# Altium footprint library connector.PcbLib: 180 footprints (part 2 of 12)
Each footprint in its own frame and in the unit in brackets; x right, y up, seen from the top. Pads: shape width x height; smd on the part's side, far side on the other; paste and mask are expansions set on the pad; w line width, h text height; cw(c..) or ccw(c..) is an arc to the next point about the centre after c.
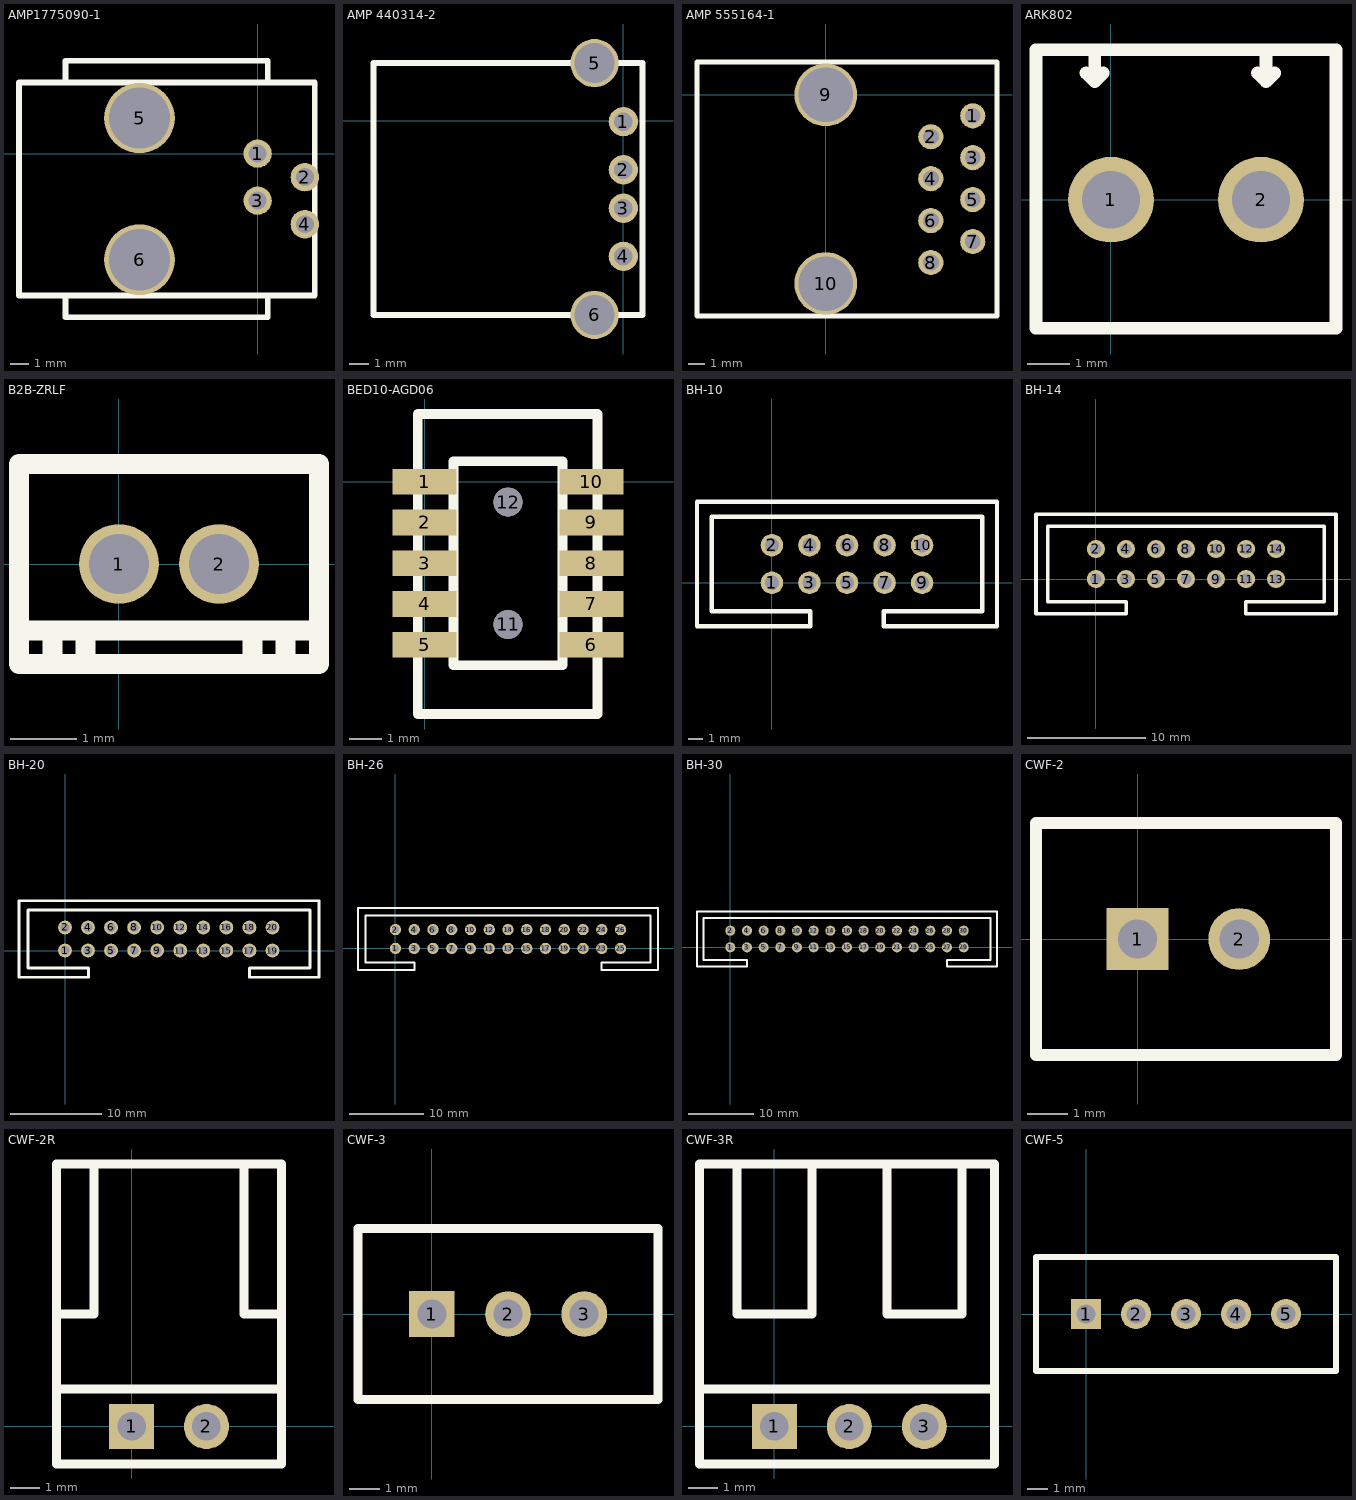
[diagram p1: the footprints below, top view; thin cyan lines are the x and y axes]

## AMP1775090-1 [mm]
pads (6):
  round 1.524 hole 0.965: 1(-0.02,0.02) 2(2.52,-1.25) 3(-0.02,-2.51) 4(2.52,-3.78)
  round 3.8 hole 3.3: 5(-6.37,1.93) 6(-6.37,-5.69)
Top Overlay:
  lines w0.3: -10.35,-7.61 -10.35,-8.78 0.53,-8.78 0.53,-7.61 ; -10.35,3.84 -10.35,5.01 0.53,5.01 0.53,3.84 ; -12.85,-7.61 -12.85,3.84 3.05,3.84 3.05,-7.61 -12.85,-7.61

## AMP 440314-2 [mm]
pads (6):
  round 1.524 hole 0.965: 1(0,-0.05) 2(0,-2.55) 3(0,-4.55) 4(0,-7.05)
  round 2.5 hole 2.1: 5(-1.5,3) 6(-1.5,-10.1)
Top Overlay:
  lines w0.3: -13,-10.1 1,-10.1 1,3 -13,3 -13,-10.1

## AMP 555164-1 [mil]
pads (10):
  round 60 hole 38: 1(350.39,-50) 2(250.39,-100) 3(350.39,-150) 4(250.39,-200) 5(350.39,-250) 6(250.39,-300) 7(350.39,-350) 8(250.39,-400)
  round 149.61 hole 129.92: 9(0,0) 10(0,-450)
Top Overlay:
  lines w11.81: -307.09,-527.17 327.95,-527.17 408.27,-527.17 408.27,77.95 -307.09,77.95 -307.09,-527.17

## ARK802 [mm]
pads (2):
  round 2 hole 1.35: 1(0,0) 2(3.5,0)
Top Overlay:
  lines w0.3: -0.58,2.96 -0.38,2.76 ; -0.38,3.36 -0.38,2.76 ; -0.18,2.96 -0.38,2.76 ; 3.42,2.96 3.62,2.76 ; 3.62,3.36 3.62,2.76 ; 3.82,2.96 3.62,2.76 ; -1.75,-3 5.25,-3 5.25,3.5 -1.75,3.5 -1.75,-3

## B2B-ZRLF [mm]
pads (2):
  round 1.2 hole 0.9: 1(0,0) 2(1.5,0)
Top Overlay:
  lines w0.3: -1.5,-1 3,-1 ; -1,-1.5 -1,-1 ; -0.5,-1.5 -0.5,-1 ; 2,-1.5 2,-1 ; 2.5,-1.5 2.5,-1 ; -1.5,-1.5 3,-1.5 3,1.5 -1.5,1.5 -1.5,-1.5

## BED10-AGD06 [mm]
pads (12):
  rect 2x0.8 smd: 1(0,0) 2(0,-1.27) 3(0,-2.54) 4(0,-3.81) 5(0,-5.08) 6(5.2,-5.08) 7(5.2,-3.81) 8(5.2,-2.54) 9(5.2,-1.27) 10(5.2,0)
  round 0.9 hole 0.9 unplated: 11(2.6,-4.445) 12(2.6,-0.635)
Top Overlay:
  lines w0.3: -0.21,-7.24 -0.21,2.11 5.39,2.11 5.39,-7.24 -0.21,-7.24 ; 0.9,-5.715 0.9,0.635 4.3,0.635 4.3,-5.715 0.9,-5.715
3D body "BED10.STEP": height 7.8, standoff 0, extent -0.175,-7.195 5.325,2.125

## BH-10 [mil]
pads (10):
  round 60 hole 38: 1(0,0) 2(0,100) 3(100,0) 4(100,100) 5(200,0) 6(200,100) 7(300,0) 8(300,100) 9(400,0) 10(400,100)
Top Overlay:
  lines w11.81: -199.61,-115.35 -199.61,215.35 599.61,215.35 599.61,-115.35 333.46,-115.35 298.43,-115.35 298.43,-75.98 524.02,-75.98 560.24,-75.98 560.24,175.98 -160.24,175.98 -160.24,-31.89 -160.24,-75.98 101.57,-75.98 101.57,-115.35 -199.61,-115.35

## BH-14 [mil]
pads (14):
  round 60 hole 38: 1(0,0) 2(0,100) 3(100,0) 4(100,100) 5(200,0) 6(200,100) 7(300,0) 8(300,100) 9(400,0) 10(400,100) 11(500,0) 12(500,100) 13(600,0) 14(600,100)
Top Overlay:
  lines w11.81: -199.61,-115.35 -199.61,215.35 799.61,215.35 799.61,-115.35 533.46,-115.35 498.43,-115.35 498.43,-75.98 724.02,-75.98 760.24,-75.98 760.24,175.98 -160.24,175.98 -160.24,-31.89 -160.24,-75.98 101.57,-75.98 101.57,-115.35 -199.61,-115.35

## BH-20 [mil]
pads (20):
  round 60 hole 38: 1(0,0) 2(0,100) 3(100,0) 4(100,100) 5(200,0) 6(200,100) 7(300,0) 8(300,100) 9(400,0) 10(400,100) 11(500,0) 12(500,100) 13(600,0) 14(600,100) 15(700,0) 16(700,100) 17(800,0) 18(800,100) 19(900,0) 20(900,100)
Top Overlay:
  lines w11.81: -199.61,-115.35 -199.61,215.35 1101.97,215.35 1101.97,-115.35 835.83,-115.35 800.79,-115.35 800.79,-75.98 1026.38,-75.98 1062.6,-75.98 1062.6,175.98 -160.24,175.98 -160.24,-31.89 -160.24,-75.98 101.57,-75.98 101.57,-115.35 -199.61,-115.35

## BH-26 [mil]
pads (26):
  round 60 hole 38: 1(0,0) 2(0,100) 3(100,0) 4(100,100) 5(200,0) 6(200,100) 7(300,0) 8(300,100) 9(400,0) 10(400,100) 11(500,0) 12(500,100) 13(600,0) 14(600,100) 15(700,0) 16(700,100) 17(800,0) 18(800,100) 19(900,0) 20(900,100) 21(1000,0) 22(1000,100) 23(1100,0) 24(1100,100) 25(1200,0) 26(1200,100)
Top Overlay:
  lines w11.81: -199.61,-115.35 -199.61,215.35 1399.61,215.35 1399.61,-115.35 1133.46,-115.35 1098.43,-115.35 1098.43,-75.98 1324.02,-75.98 1360.24,-75.98 1360.24,175.98 -160.24,175.98 -160.24,-31.89 -160.24,-75.98 101.57,-75.98 101.57,-115.35 -199.61,-115.35

## BH-30 [mil]
pads (30):
  round 60 hole 38: 1(0,0) 2(0,100) 3(100,0) 4(100,100) 5(200,0) 6(200,100) 7(300,0) 8(300,100) 9(400,0) 10(400,100) 11(500,0) 12(500,100) 13(600,0) 14(600,100) 15(700,0) 16(700,100) 17(800,0) 18(800,100) 19(900,0) 20(900,100) 21(1000,0) 22(1000,100) 23(1100,0) 24(1100,100) 25(1200,0) 26(1200,100) 27(1300,0) 28(1300,100) 29(1400,0) 30(1400,100)
Top Overlay:
  lines w11.81: -199.61,-115.35 101.57,-115.35 101.57,-75.98 -160.24,-75.98 -160.24,-31.89 -160.24,175.98 1560.24,175.98 1560.24,-75.98 1524.02,-75.98 1298.43,-75.98 1298.43,-115.35 1333.46,-115.35 1599.61,-115.35 1599.61,215.35 -199.61,215.35 -199.61,-115.35

## CWF-2 [mil]
pads (2):
  rect 60x60 hole 38: 1(0,0)
  round 60 hole 38: 2(98.43,0)
Top Overlay:
  lines w11.81: -98.43,-112.2 192.13,-112.2 192.13,112.2 -98.43,112.2 -98.43,-112.2

## CWF-2R [mil]
pads (2):
  rect 60x60 hole 38: 1(0,0)
  round 60 hole 38: 2(100,0)
Top Overlay:
  lines w11.81: -100,150 -50,150 -50,350 ; 150,350 150,150 200,150 ; -100,50 -100,350 200,350 200,50 ; -100,50 200,50 ; -100,50 -100,-50 200,-50 200,50

## CWF-3 [mil]
pads (3):
  rect 60x60 hole 38: 1(0,0)
  round 60 hole 38: 2(100,0) 3(200,0)
Top Overlay:
  lines w11.81: -96.85,-112.2 296.85,-112.2 296.85,112.2 -96.85,112.2 -96.85,-112.2

## CWF-3R [mil]
pads (3):
  rect 60x60 hole 38: 1(0,0)
  round 60 hole 38: 2(100,0) 3(200,0)
Top Overlay:
  lines w11.81: -50,350 -50,150 50,150 50,350 ; 150,350 150,150 250,150 250,350 ; -100,50 -100,350 293.7,350 293.7,50 ; -100,50 293.7,50 ; -100,50 -100,-50 293.7,-50 293.7,50

## CWF-5 [mil]
pads (5):
  rect 60x60 hole 38: 1(0,0)
  round 60 hole 38: 2(98.43,0) 3(196.85,0) 4(295.28,0) 5(393.7,0)
Top Overlay:
  lines w11.81: -98.43,-112.2 492.13,-112.2 492.13,112.2 -98.43,112.2 -98.43,-112.2